# EAGLE library part 7490240120 (library WE-LAN)
WE-LAN LAN Transformer Characteristics Suitable for industrial temperatures from –40 °C up to +125 °C Different version available from 1.5 kV isolation to 6 kV. HPLE version Additional CMC for higher attenuation Non PoE, PoE and PoE++ up to 2 A PoE up to 150 W and speeds up to 1 Gbit/s Available in SMT Compliant with standards: IEEE 802.3u, IEEE 802.3ab, IEEE 802.3af, IEEE 802.3at and IEEE 802.3bt UL Recognized Applications Compatible to Industrial Ethernet systems like EtherCAT or Profinet Compliant with most IC’s for Ethernet applications such as Microchip, Texas Instruments, Broadcom, Linear Technology Router, switches, sensors, robotics, automation, IP cameras, IoT applications Details see: www.we-online.com/en/components/products/WE-LAN Updated by Ella Wu 2025-05-13 2025 (C) Würth Elektronik
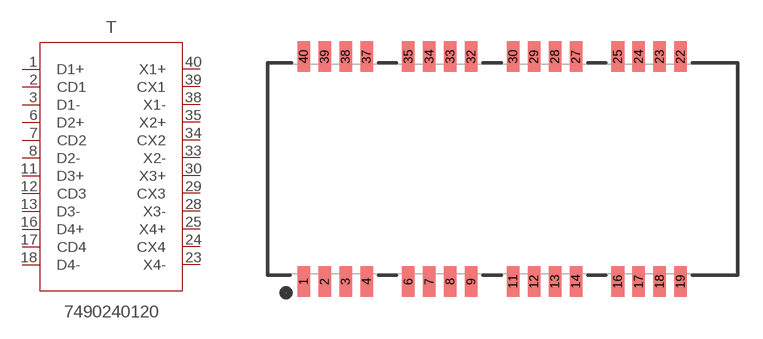
[diagram p9: symbol with the pads of 7490240120; footprint 7490240120]

Designator prefix T

## 7490240120 (DATA-RATE: 1000 Base-T; DATASHEET: https://www.we-online.com/redexpert/spec/7490240120?ae; HPLE: No; IMPROVED-CMRR: No; L: 350 uH; MOUNT: SMT; OPERATING-TEMPERATURE: -40 °C up to +105 °C; PART-NUMBER: 7490240120; POE: 4PPoE (up to 350 mA); PORTS: 1; VALUE: 7490240120; VT: 4000 V (RMS))  [7490240120]
1  D1+  pas
2  CD1  pas
3  D1-  pas
6  D2+  pas
7  CD2  pas
8  D2-  pas
11  D3+  pas
12  CD3  pas
13  D3-  pas
16  D4+  pas
17  CD4  pas
18  D4-  pas
23  X4-  pas
24  CX4  pas
25  X4+  pas
28  X3-  pas
29  CX3  pas
30  X3+  pas
33  X2-  pas
34  CX2  pas
35  X2+  pas
38  X1-  pas
39  CX1  pas
40  X1+  pas

## Footprint 7490240120 (pad centres in mm)
WE-LAN LAN Transformer 1000 Base-T, 1Port, SMT
smd 0.76 x 1.86: 1 -11.43,-6.815; 2 -10.16,-6.815; 3 -8.89,-6.815; 4 -7.62,-6.815; 6 -5.08,-6.815; 7 -3.81,-6.815; 8 -2.54,-6.815; 9 -1.27,-6.815; 11 1.27,-6.815; 12 2.54,-6.815; 13 3.81,-6.815; 14 5.08,-6.815; 16 7.62,-6.815; 17 8.89,-6.815; 18 10.16,-6.815; 19 11.43,-6.815; 22 11.43,6.815; 23 10.16,6.815; 24 8.89,6.815; 25 7.62,6.815; 27 5.08,6.815; 28 3.81,6.815; 29 2.54,6.815; 30 1.27,6.815; 32 -1.27,6.815; 33 -2.54,6.815; 34 -3.81,6.815; 35 -5.08,6.815; 37 -7.62,6.815; 38 -8.89,6.815; 39 -10.16,6.815; 40 -11.43,6.815